# EAGLE library part CY7C65632 (library EXCISS)
CY7C65632-48AXCT Very Low Power USB 2.0 Hub Controller Links Datasheet <http://www.cypress.com/file/114101/download> Guidelines on System Design using Cypress's USB 2.0 Hub <http://www.cypress.com/?rID=54780> Product website <http://www.cypress.com/part/cy7c65632-48axct>
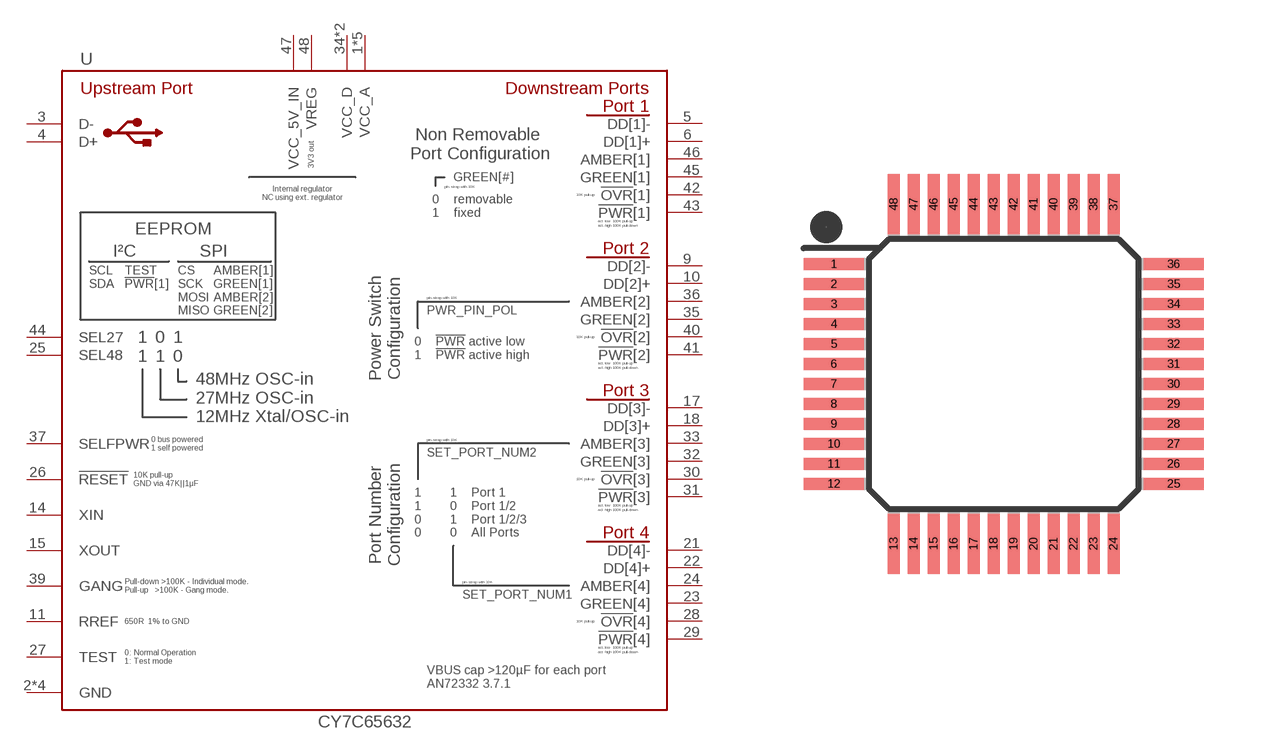
[diagram p4: symbol with the pads of TQFP48; footprint TQFP48]

Designator prefix U

## CY7C65632-48AXCT (OC_MOUSER: 727-CY7C65632-48AXCT)  [TQFP48]
1  VCC_A  pwr
2  GND
3  D-
4  D+
5  DD[1]-
6  DD[1]+
7  VCC_A  pwr
8  GND
9  DD[2]-
10  DD[2]+
11  RREF
12  VCC_A  pwr
13  GND
14  XIN
15  XOUT
16  VCC_A  pwr
17  DD[3]-
18  DD[3]+
19  VCC_A  pwr
20  GND
21  DD[4]-
22  DD[4]+
23  GREEN[4]
24  AMBER[4]
25  SEL48
26  !RESET
27  TEST
28  !OVR![4]
29  !PWR![4]
30  !OVR![3]
31  !PWR![3]
32  GREEN[3]
33  AMBER[3]
34  VCC_D  pwr
35  GREEN[2]
36  AMBER[2]
37  SELFPWR
38  VCC_D  pwr
39  GANG
40  !OVR![2]
41  !PWR![2]
42  !OVR![1]
43  !PWR![1]
44  SEL27
45  GREEN[1]
46  AMBER[1]
47  VCC_5V_IN  pwr
48  VREG  sup

## Footprint TQFP48 (pad centres in mm)
Thin Quad Flat Pack
smd 1.5 x 0.3: 1 -4.25,2.75; 2 -4.25,2.25; 3 -4.25,1.75; 4 -4.25,1.25; 5 -4.25,0.75; 6 -4.25,0.25; 7 -4.25,-0.25; 8 -4.25,-0.75; 9 -4.25,-1.25; 10 -4.25,-1.75; 11 -4.25,-2.25; 12 -4.25,-2.75; 25 4.25,-2.75; 26 4.25,-2.25; 27 4.25,-1.75; 28 4.25,-1.25; 29 4.25,-0.75; 30 4.25,-0.25; 31 4.25,0.25; 32 4.25,0.75; 33 4.25,1.25; 34 4.25,1.75; 35 4.25,2.25; 36 4.25,2.75
smd 0.3 x 1.5: 13 -2.75,-4.25; 14 -2.25,-4.25; 15 -1.75,-4.25; 16 -1.25,-4.25; 17 -0.75,-4.25; 18 -0.25,-4.25; 19 0.25,-4.25; 20 0.75,-4.25; 21 1.25,-4.25; 22 1.75,-4.25; 23 2.25,-4.25; 24 2.75,-4.25; 37 2.75,4.25; 38 2.25,4.25; 39 1.75,4.25; 40 1.25,4.25; 41 0.75,4.25; 42 0.25,4.25; 43 -0.25,4.25; 44 -0.75,4.25; 45 -1.25,4.25; 46 -1.75,4.25; 47 -2.25,4.25; 48 -2.75,4.25